# EAGLE library part MICRO-SD-CARD (library MICRO-SD-CARD)
Memory Card Connectors MICRO SD CARD CONNECTOR WITH PUSH PUSH EJECT ACTION Source: Datasheet <https://www.olimex.com/Products/Components/Connectors/MICRO-SD-CARD/resources/MICRO-SDCARD-1.jpg>
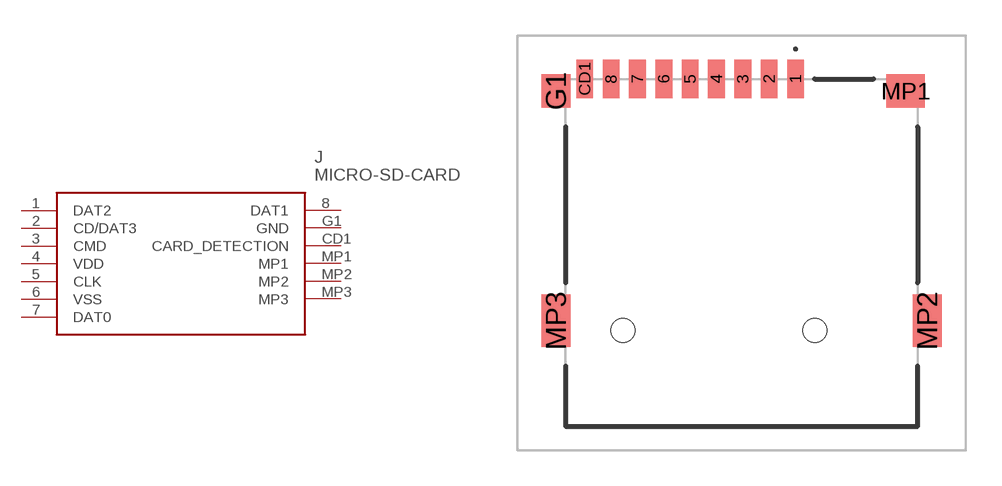
[diagram p0: symbol with the pads of MICROSDCARD; footprint MICROSDCARD]

Designator prefix J

## MICRO-SD-CARD (Description: Memory Card Connectors MICRO SD CARD CONNECTOR WITH PUSH PUSH EJECT ACTION; Height: 2mm; Manufacturer_Name: Olimex Ltd.; Manufacturer_Part_Number: MICRO-SD-CARD; Mouser_Part_Number: 909-MICRO-SD-CARD; Mouser_Price-Stock: https://www.mouser.co.uk/ProductDetail/Olimex-Ltd/MICRO-SD-CARD?qs=Rp5uXu7WBW8fXUZTWj6z0w%3D%3D)  [MICROSDCARD]
1  DAT2
2  CD/DAT3
3  CMD
4  VDD
5  CLK
6  VSS
7  DAT0
8  DAT1
CD1  CARD_DETECTION
G1  GND
MP1  MP1
MP2  MP2
MP3  MP3

## Footprint MICROSDCARD (pad centres in mm)
MICRO-SD-CARD-6
smd 0.7 x 1.6: 1 2.25,6.85; 2 1.15,6.85; 3 0.05,6.85; 4 -1.05,6.85; 5 -2.15,6.85; 6 -3.25,6.85; 7 -4.35,6.85; 8 -5.45,6.85; CD1 -6.55,6.85
smd 1.2 x 1.4: G1 -7.75,6.35
smd 1.6 x 1.4: MP1 6.85,6.35
smd 1.2 x 2.2: MP2 7.75,-3.25; MP3 -7.75,-3.25
hole 1 at 3.05,-3.65
hole 1 at -4.95,-3.65